# EAGLE library part NOKIA-LCD-3310 (library chiptron_cz)
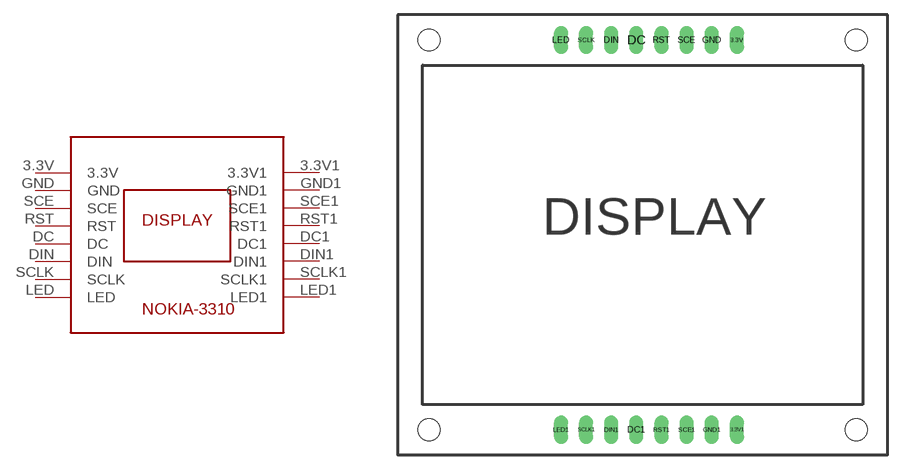
[diagram p1: symbol with the pads of NOKIA-LCD-3310; footprint NOKIA-LCD-3310]

Designator prefix -

## NOKIA-LCD-3310  [NOKIA-LCD-3310]
3.3V  3.3V
3.3V1  3.3V1
DC  DC
DC1  DC1
DIN  DIN
DIN1  DIN1
GND  GND
GND1  GND1
LED  LED
LED1  LED1
RST  RST
RST1  RST1
SCE  SCE
SCE1  SCE1
SCLK  SCLK
SCLK1  SCLK1

## Footprint NOKIA-LCD-3310 (pad centres in mm)
drill 0.8 pad 1.422 long: 3.3V 8.89,19.05; 3.3V1 8.89,-20.32; DC -1.27,19.05; DC1 -1.27,-20.32; DIN -3.81,19.05; DIN1 -3.81,-20.32; GND 6.35,19.05; GND1 6.35,-20.32; LED -8.89,19.05; LED1 -8.89,-20.32; RST 1.27,19.05; RST1 1.27,-20.32; SCE 3.81,19.05; SCE1 3.81,-20.32; SCLK -6.35,19.05; SCLK1 -6.35,-20.32
hole 2.2 at 20.955,19.05
hole 2.2 at -22.225,19.05
hole 2.2 at 20.955,-20.32
hole 2.2 at -22.225,-20.32